# Altium schematic symbol library cmc_1.Schlib: 1 symbol
Pins are listed as number, name and electrical type; pins without a type are passive.

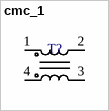
[diagram p0: symbol cmc_1]

## cmc_1
designator T?
Common Mode Choke
pins: 1, 2, 3, 4 34